# EAGLE library part QFP100-0.5 (library ic-package)
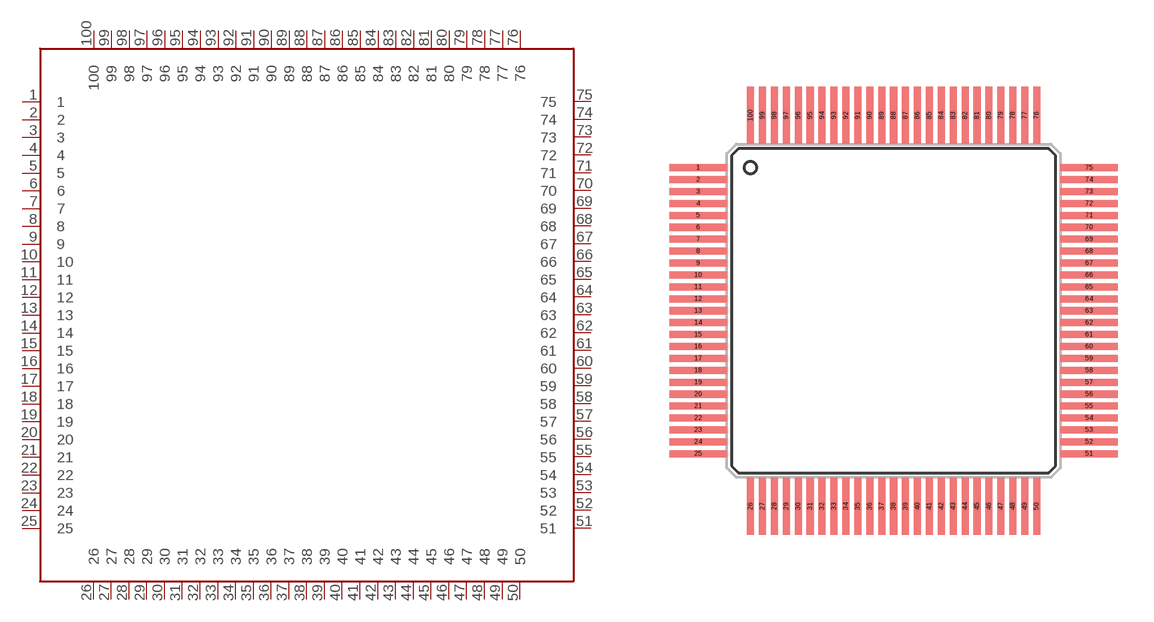
[diagram p2: symbol with the pads of QFP100-0.5; footprint QFP100-0.5]

Designator prefix U

## QFP100-0.5  [QFP100-0.5]
1  1  pas
2  2  pas
3  3  pas
4  4  pas
5  5  pas
6  6  pas
7  7  pas
8  8  pas
9  9  pas
10  10  pas
11  11  pas
12  12  pas
13  13  pas
14  14  pas
15  15  pas
16  16  pas
17  17  pas
18  18  pas
19  19  pas
20  20  pas
21  21  pas
22  22  pas
23  23  pas
24  24  pas
25  25  pas
26  26  pas
27  27  pas
28  28  pas
29  29  pas
30  30  pas
31  31  pas
32  32  pas
33  33  pas
34  34  pas
35  35  pas
36  36  pas
37  37  pas
38  38  pas
39  39  pas
40  40  pas
41  41  pas
42  42  pas
43  43  pas
44  44  pas
45  45  pas
46  46  pas
47  47  pas
48  48  pas
49  49  pas
50  50  pas
51  51  pas
52  52  pas
53  53  pas
54  54  pas
55  55  pas
56  56  pas
57  57  pas
58  58  pas
59  59  pas
60  60  pas
61  61  pas
62  62  pas
63  63  pas
64  64  pas
65  65  pas
66  66  pas
67  67  pas
68  68  pas
69  69  pas
70  70  pas
71  71  pas
72  72  pas
73  73  pas
74  74  pas
75  75  pas
76  76  pas
77  77  pas
78  78  pas
79  79  pas
80  80  pas
81  81  pas
82  82  pas
83  83  pas
84  84  pas
85  85  pas
86  86  pas
87  87  pas
88  88  pas
89  89  pas
90  90  pas
91  91  pas
92  92  pas
93  93  pas
94  94  pas
95  95  pas
96  96  pas
97  97  pas
98  98  pas
99  99  pas
100  100  pas

## Footprint QFP100-0.5 (pad centres in mm)
smd 2.4 x 0.297: 1 -8.2,6; 2 -8.2,5.5; 3 -8.2,5; 4 -8.2,4.5; 5 -8.2,4; 6 -8.2,3.5; 7 -8.2,3; 8 -8.2,2.5; 9 -8.2,2; 10 -8.2,1.5; 11 -8.2,1; 12 -8.2,0.5; 13 -8.2,0; 14 -8.2,-0.5; 15 -8.2,-1; 16 -8.2,-1.5; 17 -8.2,-2; 18 -8.2,-2.5; 19 -8.2,-3; 20 -8.2,-3.5; 21 -8.2,-4; 22 -8.2,-4.5; 23 -8.2,-5; 24 -8.2,-5.5; 25 -8.2,-6; 51 8.2,-6; 52 8.2,-5.5; 53 8.2,-5; 54 8.2,-4.5; 55 8.2,-4; 56 8.2,-3.5; 57 8.2,-3; 58 8.2,-2.5; 59 8.2,-2; 60 8.2,-1.5; 61 8.2,-1; 62 8.2,-0.5; 63 8.2,0; 64 8.2,0.5; 65 8.2,1; 66 8.2,1.5; 67 8.2,2; 68 8.2,2.5; 69 8.2,3; 70 8.2,3.5; 71 8.2,4; 72 8.2,4.5; 73 8.2,5; 74 8.2,5.5; 75 8.2,6
smd 0.297 x 2.4: 26 -6,-8.2; 27 -5.5,-8.2; 28 -5,-8.2; 29 -4.5,-8.2; 30 -4,-8.2; 31 -3.5,-8.2; 32 -3,-8.2; 33 -2.5,-8.2; 34 -2,-8.2; 35 -1.5,-8.2; 36 -1,-8.2; 37 -0.5,-8.2; 38 0,-8.2; 39 0.5,-8.2; 40 1,-8.2; 41 1.5,-8.2; 42 2,-8.2; 43 2.5,-8.2; 44 3,-8.2; 45 3.5,-8.2; 46 4,-8.2; 47 4.5,-8.2; 48 5,-8.2; 49 5.5,-8.2; 50 6,-8.2; 76 6,8.2; 77 5.5,8.2; 78 5,8.2; 79 4.5,8.2; 80 4,8.2; 81 3.5,8.2; 82 3,8.2; 83 2.5,8.2; 84 2,8.2; 85 1.5,8.2; 86 1,8.2; 87 0.5,8.2; 88 0,8.2; 89 -0.5,8.2; 90 -1,8.2; 91 -1.5,8.2; 92 -2,8.2; 93 -2.5,8.2; 94 -3,8.2; 95 -3.5,8.2; 96 -4,8.2; 97 -4.5,8.2; 98 -5,8.2; 99 -5.5,8.2; 100 -6,8.2